# Altium footprint library TCXO_KYOCERA_KT2520Y40000ECV28TBA_PCB-6PIN.PcbLib: 1 footprints
Each footprint in its own frame and in the unit in brackets; x right, y up, seen from the top. Pads: shape width x height; smd on the part's side, far side on the other; paste and mask are expansions set on the pad; w line width, h text height; cw(c..) or ccw(c..) is an arc to the next point about the centre after c.
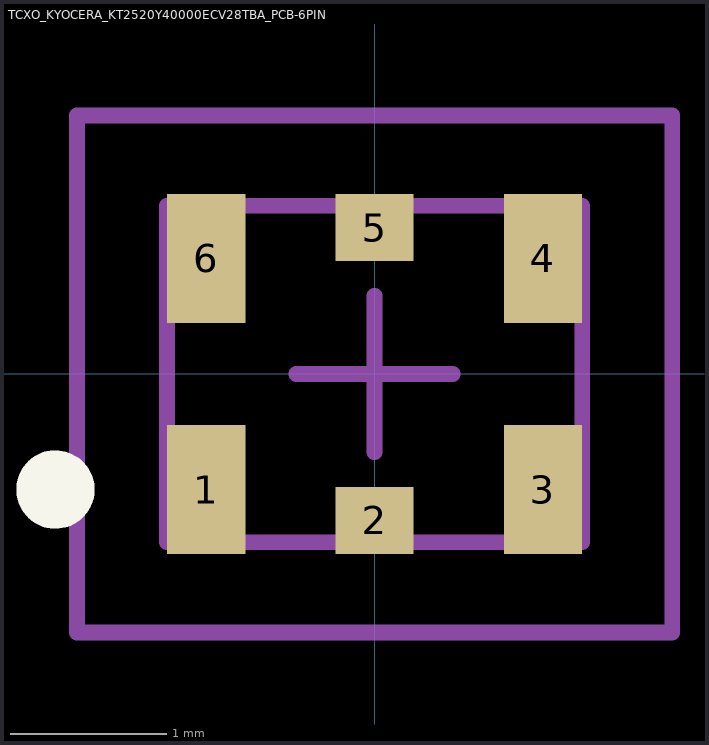
[diagram p0: the footprint, top view; thin cyan lines are the x and y axes]

## TCXO_KYOCERA_KT2520Y40000ECV28TBA_PCB-6PIN [mm]
height 0.9
pads (6):
  rect 0.5x0.825 smd: 1(-1.075,-0.738) 3(1.075,-0.738) 4(1.075,0.737) 6(-1.075,0.737)
  rect 0.5x0.43 smd: 2(0,-0.935) 5(0,0.935)
Top Overlay:
  circle w0.25: c-2.037,-0.738 r0.125
Mechanical 13:
  lines w0.1: -1.325,-1.075 1.325,-1.075 1.325,1.075 -1.325,1.075 -1.325,-1.075
Mechanical 15:
  lines w0.1: -0.5,0 0.5,0 ; 0,-0.5 0,0.5 ; -1.9,-1.65 1.9,-1.65 1.9,1.65 -1.9,1.65 -1.9,-1.65
3D body: height 0.9, standoff 0, extent -1.325,-1.075 1.325,1.075